# EAGLE library part MCP4821-DFN (library MCP4821)
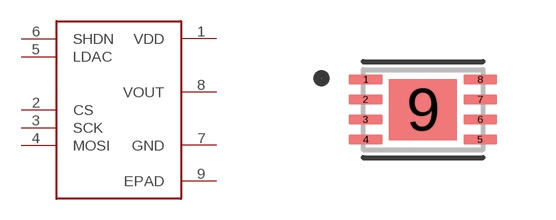
[diagram p0: symbol with the pads of SON50P200X300X100-9N; footprint SON50P200X300X100-9N]

Designator prefix -

## MCP4821-DFN  [SON50P200X300X100-9N]
1  VDD
2  CS
3  SCK
4  MOSI
5  LDAC
6  SHDN
7  GND
8  VOUT
9  EPAD

## Footprint SON50P200X300X100-9N (pad centres in mm)
smd 0.84 x 0.26: 1 -1.435,0.75; 2 -1.435,0.25; 3 -1.435,-0.25; 4 -1.435,-0.75; 5 1.435,-0.75; 6 1.435,-0.25; 7 1.435,0.25; 8 1.435,0.75
smd 1.7 x 1.525: 9 0,0